# Altium schematic symbol library components.SchLib: 3 symbols
Pins are listed as number, name and electrical type; pins without a type are passive.

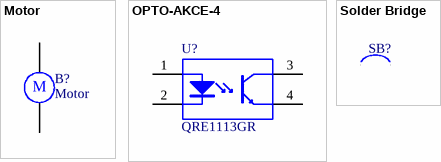
[diagram p0: symbols Motor to Solder Bridge]

## Motor
designator B?
Motor, General Kind; Published: 24-Mar-1999; LatestRevisionDate: 17-Jul-2002; LatestRevisionNote: Re-released for DXP Platform.; PackageReference: RB5-10.5; Publisher: Altium Limited; PackageDescription: Capacitor (Radial); 2 Leads
footprint Motor Wire Footprint
pins: 1, 2
text: M

## OPTO-AKCE-4
designator U?, comment QRE1113GR
Miniature Reflective Object Sensor, 30 V, -40 to 85 degC, 4-Pin SMD, RoHS, Tape and Reel; Manufacturer: FairchildSemiconductor; Maximum Collector Emitter Voltage: 30V; Lead Finish: MatteTin; Maximum Rise Time: 20000(Typ)ns; Rad Hard: No; Number of Channels per Chip: 1; Maximum Collector Current: 20mA; Wavelength: 940nm; Maximum Forward Current: 50mA; Maximum Reverse Voltage: 5V; Packaging: Tape&Reel; Package Reference: QRE1113GR; Package Description: 4-Pin Surface Mount Device, Body 3.4 x 2.7 mm, Pitch 1.8 mm; Mounting Technology: SurfaceMount; Manufacturer URL: https://www.fairchildsemi.com/; Package: 4MiniatureSMT; Minimum Operating Temperature: -40°C; Type: Reflective; Maximum Operating Temperature: 85°C; Category: Photointerrupter; Datasheet URL: https://www.fairchildsemi.com/datasheets/QR/QRE1113.pdf; Maximum Fall Time: 20000(Typ)ns; Datasheet Version: Rev. 2.7 , 04/2016
footprint QRE1113_THD
pins: 1 ANODE, 2 CATHODE, 3 COLLECTOR, 4 EMITTER

## Solder Bridge
designator SB?  (value not drawn)
Solder Bridge
footprint Solder Bridge (Solder Bridge 5x2mm, gap 0.6mm)
pins: 1, 2